# Altium footprint library SIP12.PcbLib: 1 footprints
Each footprint in its own frame and in the unit in brackets; x right, y up, seen from the top. Pads: shape width x height; smd on the part's side, far side on the other; paste and mask are expansions set on the pad; w line width, h text height; cw(c..) or ccw(c..) is an arc to the next point about the centre after c.
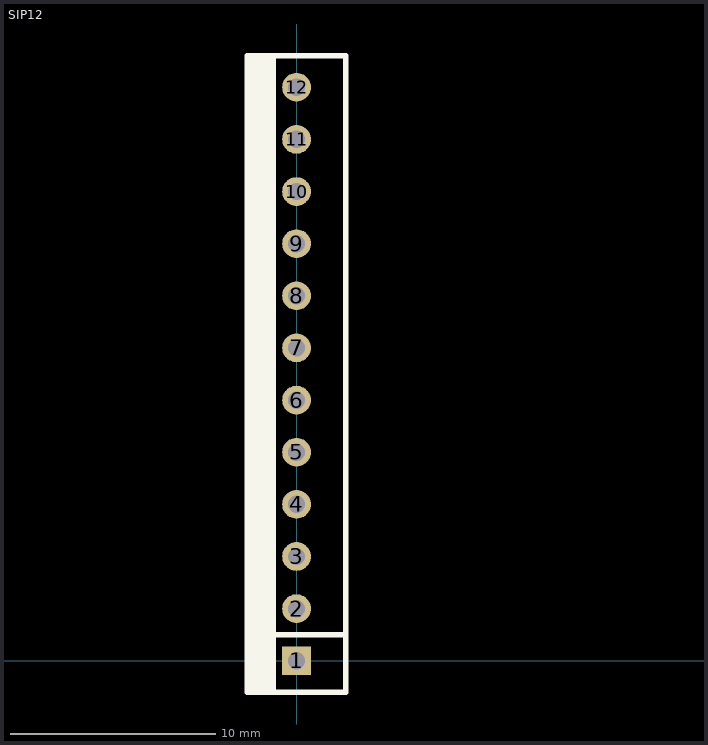
[diagram p0: the footprint, top view; thin cyan lines are the x and y axes]

## SIP12 [mm]
pads (12):
  rect 1.4x1.4 hole 0.85: 1(0,0)
  round 1.4 hole 0.85: 2(0,2.54) 3(0,5.08) 4(0,7.62) 5(0,10.16) 6(0,12.7) 7(0,15.24) 8(0,17.78) 9(0,20.32) 10(0,22.86) 11(0,25.4) 12(0,27.94)
Top Layer:
  region: 8.001,22.86
Top Overlay:
  region: -2.4,29.47 -2.4,-1.53 -1,-1.53 -1,29.47
  lines w0.254: -1.524,1.27 2.413,1.27 ; -2.4,-1.53 -2.4,29.47 2.4,29.47 2.4,-1.53 -2.4,-1.53
3D body "SIP-12.step": height 27.77, standoff -1.5, extent -4.05,-1.53 2.38,29.47